# Altium footprint library diodes.PcbLib: 2 footprints
Each footprint in its own frame and in the unit in brackets; x right, y up, seen from the top. Pads: shape width x height; smd on the part's side, far side on the other; paste and mask are expansions set on the pad; w line width, h text height; cw(c..) or ccw(c..) is an arc to the next point about the centre after c.
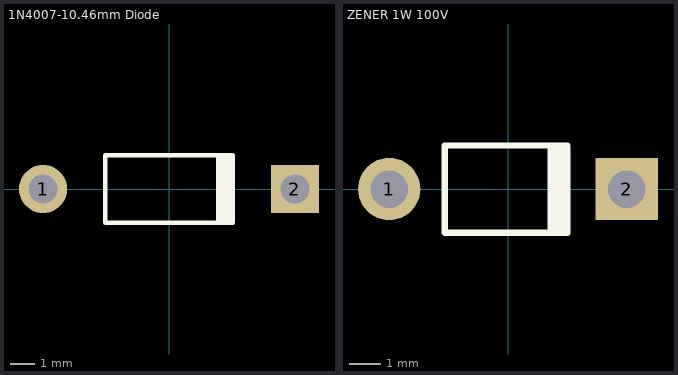
[diagram p0: the footprints below, top view; thin cyan lines are the x and y axes]

## 1N4007-10.46mm Diode [mm] "Diode, Axial; Body 5.2 x 2.7 mm (LxDia. max), Lead Dia. 0.86 mm (max)"
height 2.8
pads (2):
  round 2 hole 1.2: 1(-5.23,0)
  rect 2x2 hole 1.2: 2(5.23,0)
Top Overlay:
  rectangle: 1.95,-1.4 2.75,1.4
  lines w0.2: 2.65,-1.4 -2.65,-1.4 -2.65,1.4 2.65,1.4
3D body: height 3.31, standoff -3.33, extent -5.63,-1.31 5.63,1.31

## ZENER 1W 100V [mm] "Zenner Diode - Brand Pending"
height 2.8
pads (2):
  round 2 hole 1.2: 1(-3.81,0)
  rect 2x2 hole 1.2: 2(3.81,0)
Top Overlay:
  rectangle: 1.27,-1.397 2,1.403
  lines w0.2: -2.032,1.4 -2.032,-1.4 1.905,-1.4 ; -2,1.4 1.905,1.4
3D body: height 3.33, standoff -1, extent -4.203,-1.333 4.204,1.334